# Altium integrated library TI_Logic_Flip-Flop,Latch,Register.IntLib: 2598 symbols (part 91 of 122)
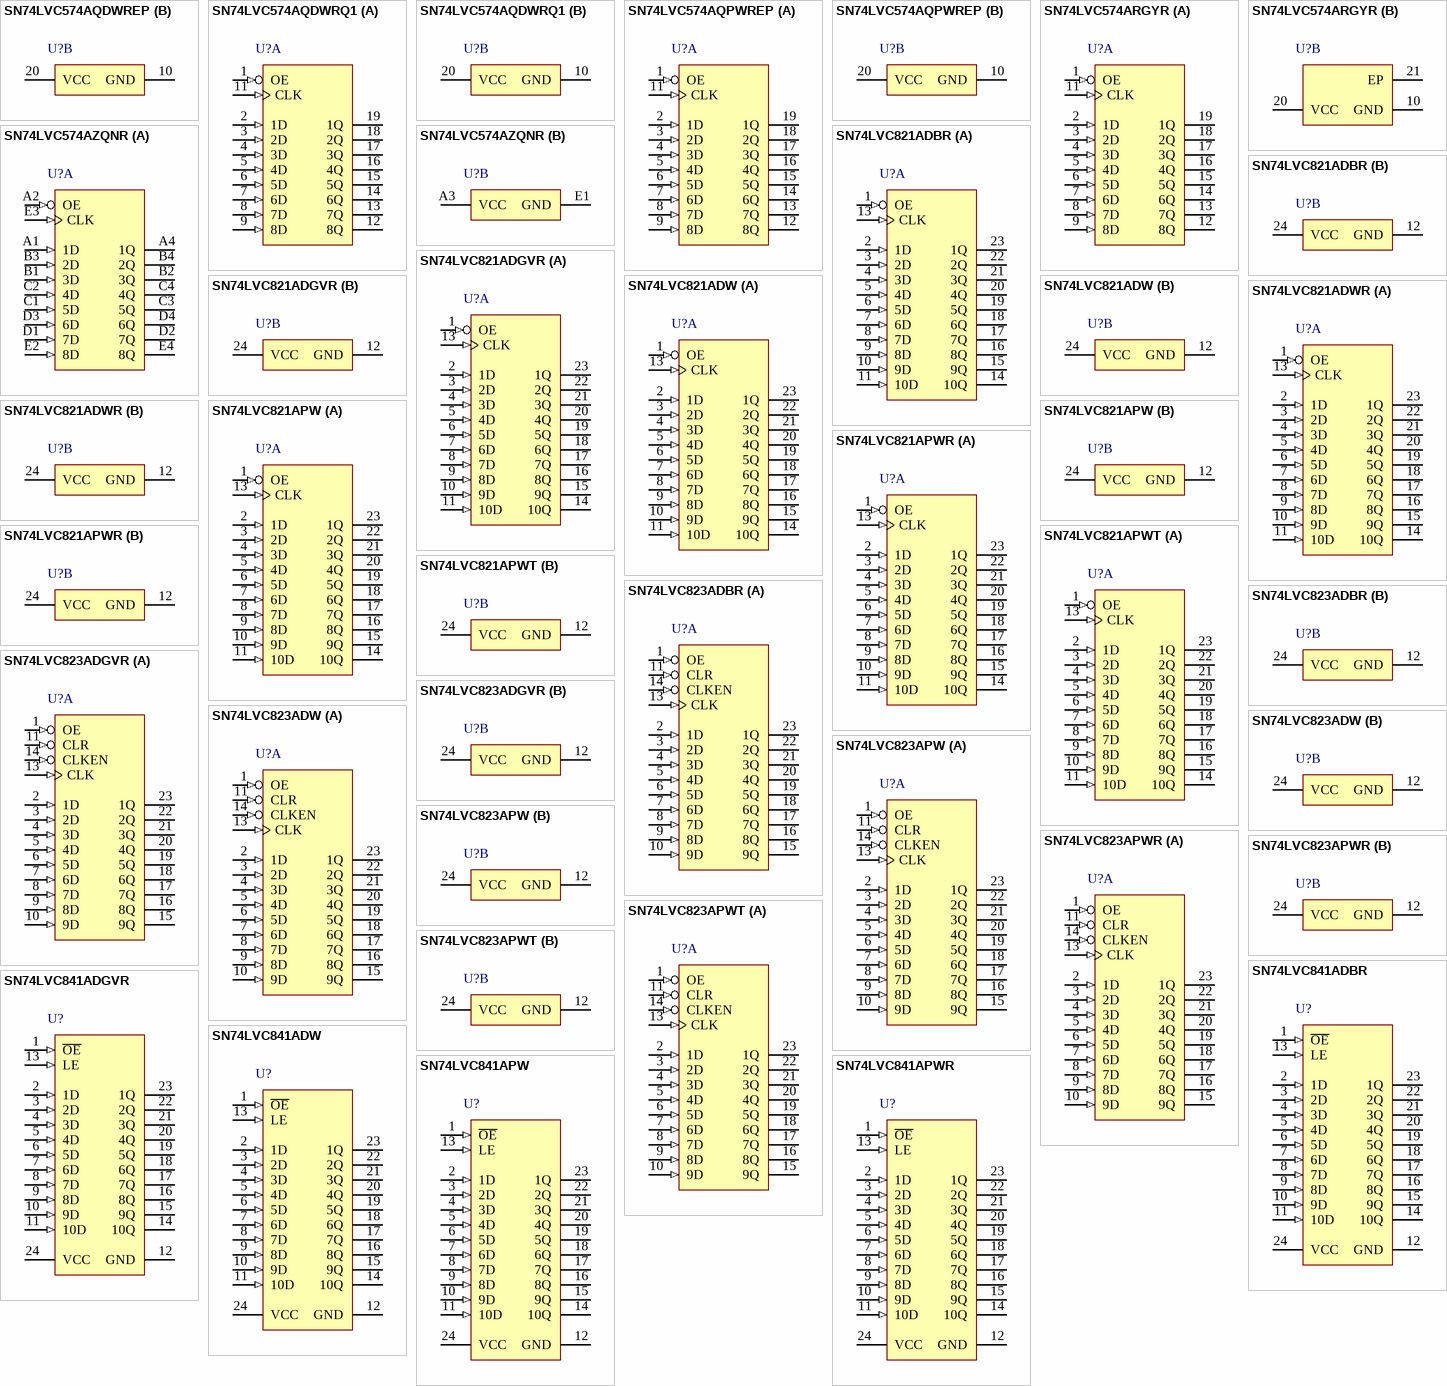
[diagram p229: symbols SN74LVC574AQDWREP to SN74LVC841APWR]

## SN74LVC841ADW
designator U?
10-Bit Bus-Interface D-Type Latch With 3-State Outputs, DW0024A, TUBE; Generic Part Number: SN74LVC841A; Manufacturer: Texas Instruments; PartNumber: SN74LVC841ADW; VCC(Min)(V): 1.65; VCC(Max)(V): 3.6; Output Type: CMOS; Logic: True; Static Current: 0.01; Input Type: CMOS,TTL; Bits(#): 10; F @ Nom Voltage(Max)(Mhz): 100; Rating: Catalog; Technology Family: LVC; Voltage(Nom)(V): 1.8,2.5,2.7,3.3; Schmitt Trigger: No; Output Drive (IOL/IOH)(Max)(mA): 24/-24; Output Logic: Non-inverted; 3-State Output: Yes; tpd @ Nom Voltage(Max)(ns): 7.5,6.7; DatasheetVersion: SCAS307J; PackageReference: DW0024A; Supplier 1: Digi-Key; Supplier Part Number 1: 296-8552-5-ND; Supplier 2: Farnell; Supplier Part Number 2: 1741602; Supplier 3: Mouser; Supplier Part Number 3: 595-SN74LVC841ADW; ICC @ Nom Voltage(Max)(mA): 0.01; Operating Temperature Range(C): -40 to 85; Code_JEDEC: MS-013; ComponentLink1Description: Manufacturer URL; ComponentLink1URL: http://www.ti.com/; ComponentLink2Description: Datasheet; ComponentLink2URL: http://www.ti.com/lit/ds/symlink/sn74lvc841a.pdf; ComponentLink3Description: Package Specification; ComponentLink3URL: http://www.ti.com/lit/ml/mpds174a/mpds174a.pdf
footprint DW0024A_N (SOIC, 24-Leads, Body 15.6x7.6mm, Pitch 1.27mm, IPC Medium Density)
footprint DW0024A_M (SOIC, 24-Leads, Body 15.6x7.6mm, Pitch 1.27mm, IPC Low Density)
footprint DW0024A_L (SOIC, 24-Leads, Body 15.6x7.6mm, Pitch 1.27mm, IPC High Density)
pins: 1 ~{OE} (in), 2 1D (in), 3 2D (in), 4 3D (in), 5 4D (in), 6 5D (in), 7 6D (in), 8 7D (in), 9 8D (in), 10 9D (in), 11 10D (in), 12 GND (power), 13 LE (in), 14 10Q (hiz), 15 9Q (hiz), 16 8Q (hiz), 17 7Q (hiz), 18 6Q (hiz), 19 5Q (hiz), 20 4Q (hiz), 21 3Q (hiz), 22 2Q (hiz), 23 1Q (hiz), 24 VCC (power)

## SN74LVC841APW
designator U?
10-Bit Bus-Interface D-Type Latch With 3-State Outputs, PW0024A, TUBE; Generic Part Number: SN74LVC841A; Manufacturer: Texas Instruments; PartNumber: SN74LVC841APW; VCC(Min)(V): 1.65; VCC(Max)(V): 3.6; Output Type: CMOS; Logic: True; Static Current: 0.01; Input Type: CMOS,TTL; Bits(#): 10; F @ Nom Voltage(Max)(Mhz): 100; Rating: Catalog; Technology Family: LVC; Voltage(Nom)(V): 1.8,2.5,2.7,3.3; Schmitt Trigger: No; Output Drive (IOL/IOH)(Max)(mA): 24/-24; Output Logic: Non-inverted; 3-State Output: Yes; tpd @ Nom Voltage(Max)(ns): 7.5,6.7; DatasheetVersion: SCAS307J; PackageReference: PW0024A; Supplier 1: Digi-Key; Supplier Part Number 1: 296-34077-5-ND; Supplier 2: Farnell; Supplier Part Number 2: 1236405; Supplier 3: Mouser; Supplier Part Number 3: 595-SN74LVC841APW; ICC @ Nom Voltage(Max)(mA): 0.01; Operating Temperature Range(C): -40 to 85; Code_JEDEC: MO-153; ComponentLink1Description: Manufacturer URL; ComponentLink1URL: http://www.ti.com/; ComponentLink2Description: Datasheet; ComponentLink2URL: http://www.ti.com/lit/ds/symlink/sn74lvc841a.pdf; ComponentLink3Description: Package Specification; ComponentLink3URL: http://www.ti.com/lit/ml/mpds363/mpds363.pdf
footprint PW0024A_N (SOP, 24-Leads, Body 7.9x4.5mm, Pitch 0.65mm, IPC Medium Density)
footprint PW0024A_M (SOP, 24-Leads, Body 7.9x4.5mm, Pitch 0.65mm, IPC Low Density)
footprint PW0024A_L (SOP, 24-Leads, Body 7.9x4.5mm, Pitch 0.65mm, IPC High Density)
pins: 1 ~{OE} (in), 2 1D (in), 3 2D (in), 4 3D (in), 5 4D (in), 6 5D (in), 7 6D (in), 8 7D (in), 9 8D (in), 10 9D (in), 11 10D (in), 12 GND (power), 13 LE (in), 14 10Q (hiz), 15 9Q (hiz), 16 8Q (hiz), 17 7Q (hiz), 18 6Q (hiz), 19 5Q (hiz), 20 4Q (hiz), 21 3Q (hiz), 22 2Q (hiz), 23 1Q (hiz), 24 VCC (power)

## SN74LVC841APWR
designator U?
10-Bit Bus-Interface D-Type Latch With 3-State Outputs, PW0024A, LARGE T&R; Generic Part Number: SN74LVC841A; Manufacturer: Texas Instruments; PartNumber: SN74LVC841APWR; VCC(Min)(V): 1.65; VCC(Max)(V): 3.6; Output Type: CMOS; Logic: True; Static Current: 0.01; Input Type: CMOS,TTL; Bits(#): 10; F @ Nom Voltage(Max)(Mhz): 100; Rating: Catalog; Technology Family: LVC; Voltage(Nom)(V): 1.8,2.5,2.7,3.3; Schmitt Trigger: No; Output Drive (IOL/IOH)(Max)(mA): 24/-24; Output Logic: Non-inverted; 3-State Output: Yes; tpd @ Nom Voltage(Max)(ns): 7.5,6.7; DatasheetVersion: SCAS307J; PackageReference: PW0024A; Supplier 1: Digi-Key; Supplier Part Number 1: 296-8553-2-ND; Supplier 2: Digi-Key; Supplier Part Number 2: 296-8553-1-ND; Supplier 3: Digi-Key; Supplier Part Number 3: 296-8553-6-ND; Supplier 4: Newark; Supplier Part Number 4: 76C4354; Supplier 5: Mouser; Supplier Part Number 5: 595-SN74LVC841APWR; ICC @ Nom Voltage(Max)(mA): 0.01; Operating Temperature Range(C): -40 to 85; Code_JEDEC: MO-153; ComponentLink1Description: Manufacturer URL; ComponentLink1URL: http://www.ti.com/; ComponentLink2Description: Datasheet; ComponentLink2URL: http://www.ti.com/lit/ds/symlink/sn74lvc841a.pdf; ComponentLink3Description: Package Specification; ComponentLink3URL: http://www.ti.com/lit/ml/mpds363/mpds363.pdf
footprint PW0024A_N (SOP, 24-Leads, Body 7.9x4.5mm, Pitch 0.65mm, IPC Medium Density)
footprint PW0024A_M (SOP, 24-Leads, Body 7.9x4.5mm, Pitch 0.65mm, IPC Low Density)
footprint PW0024A_L (SOP, 24-Leads, Body 7.9x4.5mm, Pitch 0.65mm, IPC High Density)
pins: 1 ~{OE} (in), 2 1D (in), 3 2D (in), 4 3D (in), 5 4D (in), 6 5D (in), 7 6D (in), 8 7D (in), 9 8D (in), 10 9D (in), 11 10D (in), 12 GND (power), 13 LE (in), 14 10Q (hiz), 15 9Q (hiz), 16 8Q (hiz), 17 7Q (hiz), 18 6Q (hiz), 19 5Q (hiz), 20 4Q (hiz), 21 3Q (hiz), 22 2Q (hiz), 23 1Q (hiz), 24 VCC (power)

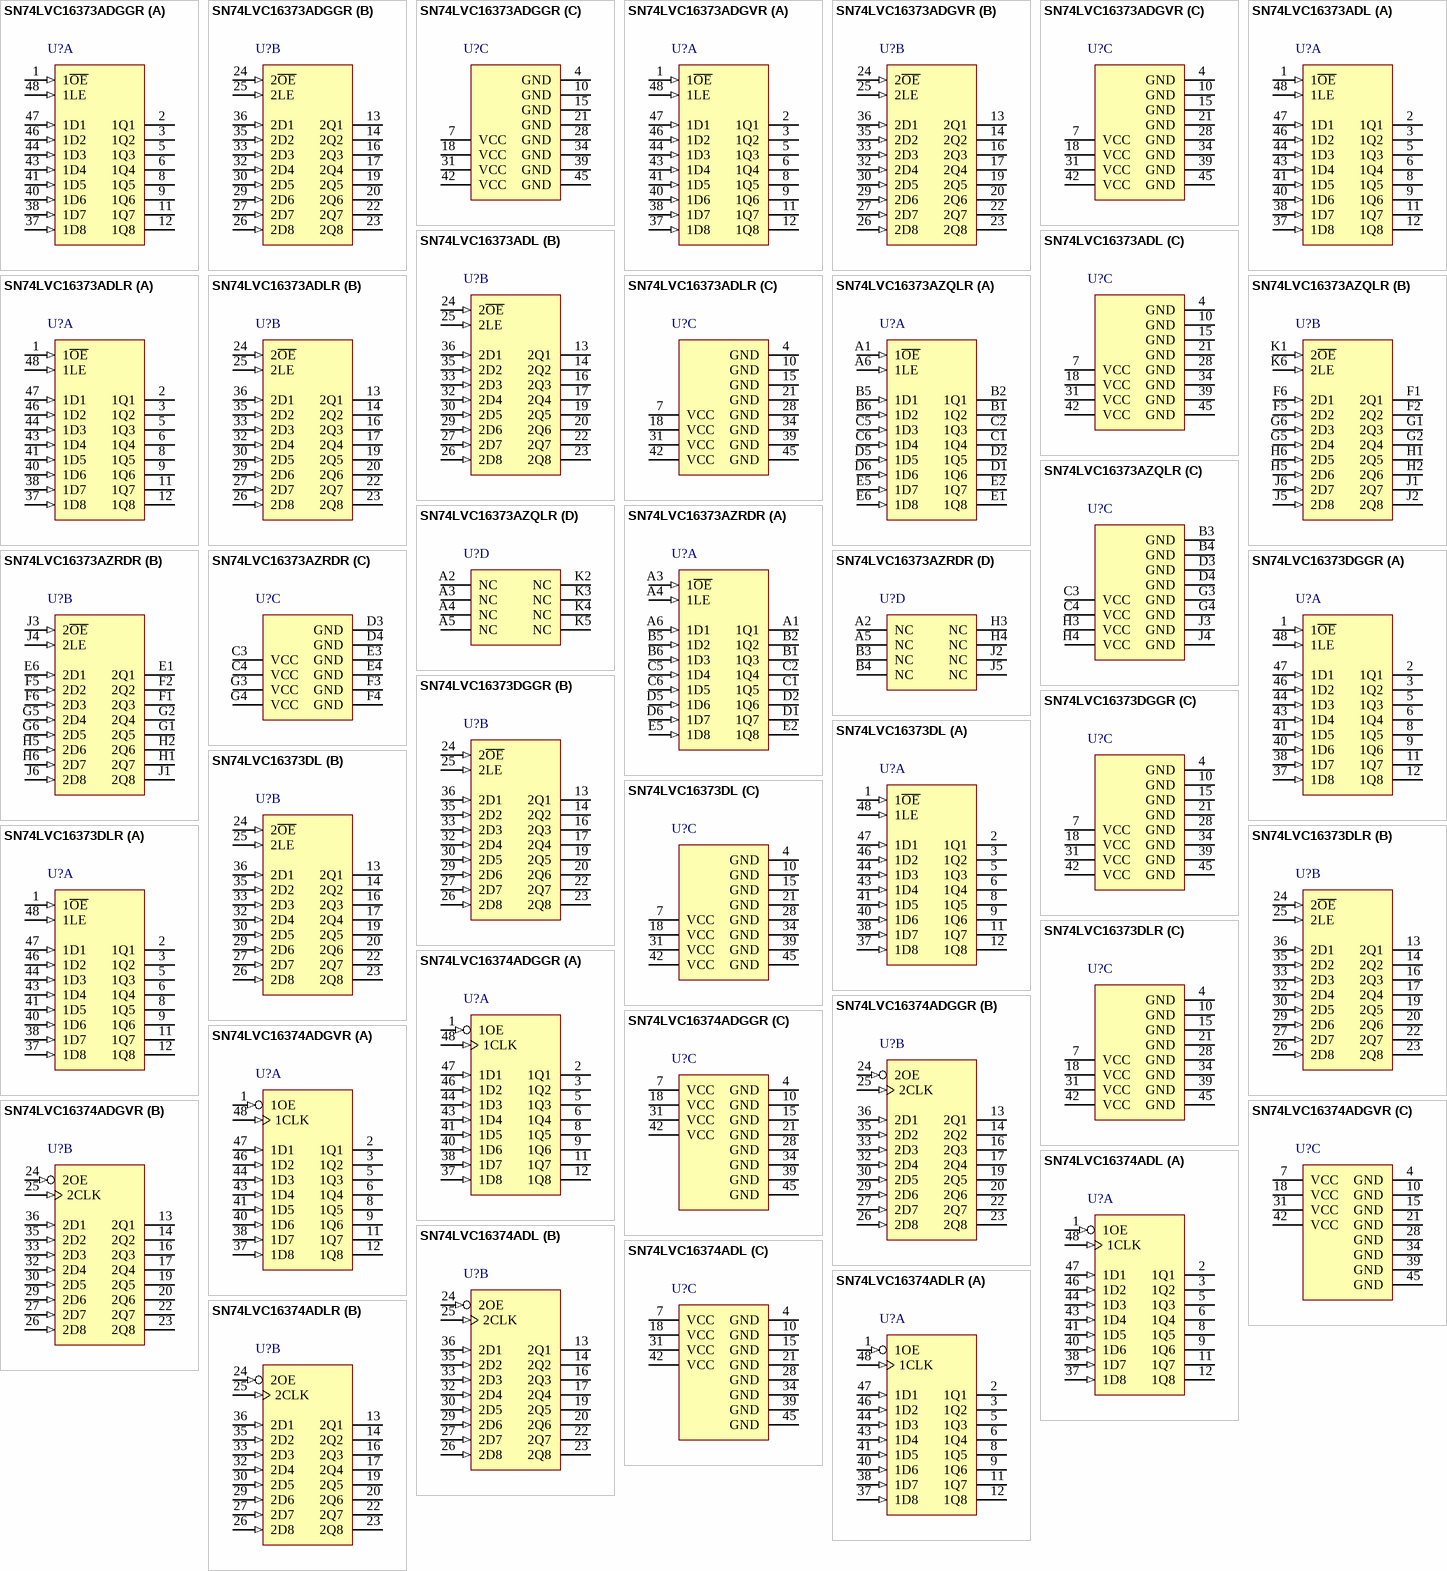
[diagram p107: symbols SN74LVC16373ADGGR to SN74LVC16374ADLR]

## SN74LVC16373ADGGR
designator U?
16-Bit Transparent D-Type Latch With 3-State Outputs, DGG0048A, LARGE T&R; Generic Part Number: SN74LVC16373A; Manufacturer: Texas Instruments; PartNumber: SN74LVC16373ADGGR; VCC(Min)(V): 1.65; VCC(Max)(V): 3.6; Output Type: CMOS; Logic: True; Static Current: 0.02; Input Type: CMOS,TTL; Bits(#): 16; F @ Nom Voltage(Max)(Mhz): 100; Rating: Catalog; Technology Family: LVC; Voltage(Nom)(V): 1.8,2.5,2.7,3.3; Schmitt Trigger: No; Output Drive (IOL/IOH)(Max)(mA): 24/-24; Output Logic: Non-inverted; 3-State Output: Yes; tpd @ Nom Voltage(Max)(ns): 6.4,4.2,4.9; DatasheetVersion: SCAS755B; PackageReference: DGG0048A; Supplier 1: Digi-Key; Supplier Part Number 1: 296-13241-2-ND; Supplier 2: Digi-Key; Supplier Part Number 2: 296-13241-1-ND; Supplier 3: Digi-Key; Supplier Part Number 3: 296-13241-6-ND; Supplier 4: Farnell; Supplier Part Number 4: 2334922; Supplier 5: Farnell; Supplier Part Number 5: 2437113; Supplier 6: Newark; Supplier Part Number 6: 94T5050; Supplier 7: Newark; Supplier Part Number 7: 76C4166; Supplier 8: Mouser; Supplier Part Number 8: 595-SNLVC16373ADGGR; ICC @ Nom Voltage(Max)(mA): 0.02; Operating Temperature Range(C): -40 to 125,-40 to 85; Code_JEDEC: MO-153; ComponentLink1Description: Manufacturer URL; ComponentLink1URL: http://www.ti.com/; ComponentLink2Description: Datasheet; ComponentLink2URL: http://www.ti.com/lit/ds/symlink/sn74lvc16373a.pdf; ComponentLink3Description: Package Specification; ComponentLink3URL: http://www.ti.com/lit/ml/mtss003d/mtss003d.pdf
footprint DGG0048A_N (TSSOP, 48-Leads, Body 12.6x6.2mm, Pitch 0.5mm, IPC Medium Density)
footprint DGG0048A_M (TSSOP, 48-Leads, Body 12.6x6.2mm, Pitch 0.5mm, IPC Low Density)
footprint DGG0048A_L (TSSOP, 48-Leads, Body 12.6x6.2mm, Pitch 0.5mm, IPC High Density)
part A pins: 1 1~{OE} (in) "Output Enable 1", 2 1Q1 (hiz) "1Q1 Output", 3 1Q2 (hiz) "1Q2 Output", 5 1Q3 (hiz) "1Q3 Output", 6 1Q4 (hiz) "1Q4 Output", 8 1Q5 (hiz) "1Q5 Output", 9 1Q6 (hiz) "1Q6 Output", 11 1Q7 (hiz) "1Q7 Output", 12 1Q8 (hiz) "1Q8 Output", 37 1D8 (in) "1D8 Input", 38 1D7 (in) "1D7 Input", 40 1D6 (in) "1D6 Input", 41 1D5 (in) "1D5 Input", 43 1D4 (in) "1D4 Input", 44 1D3 (in) "1D3 Input", 46 1D2 (in) "1D2 Input", 47 1D1 (in) "1D1 Input", 48 1LE (in) "Latch Enable 1"
part B pins: 13 2Q1 (hiz) "2Q1 Output", 14 2Q2 (hiz) "2Q2 Output", 16 2Q3 (hiz) "2Q3 Output", 17 2Q4 (hiz) "2Q4 Output", 19 2Q5 (hiz) "Output", 20 2Q6 (hiz) "2Q6 Output", 22 2Q7 (hiz) "2Q7 Output", 23 2Q8 (hiz) "2Q8 Output", 24 2~{OE} (in) "Output Enable 2", 25 2LE (in) "2LE Input", 26 2D8 (in) "2D8 Input", 27 2D7 (in) "2D7 Input", 29 2D6 (in) "2D6 Input", 30 2D5 (in) "2D5 Input", 32 2D4 (in) "2D4 Input", 33 2D3 (in) "2D3 Input", 35 2D2 (in) "2D2 Input", 36 2D1 (in) "2D1 Input"
part C pins: 4 GND (power) "Ground Pin", 7 VCC (power) "Power Pin", 10 GND (power) "Ground Pin", 15 GND (power) "Ground Pin", 18 VCC (power) "Power Pin", 21 GND (power) "Ground Pin", 28 GND (power) "Ground Pin", 31 VCC (power) "Power Pin", 34 GND (power) "Ground Pin", 39 GND (power) "Ground Pin", 42 VCC (power) "Power Pin", 45 GND (power) "Ground Pin"

## SN74LVC16373ADGVR
designator U?
16-Bit Transparent D-Type Latch With 3-State Outputs, DGV0048A, LARGE T&R; Generic Part Number: SN74LVC16373A; Manufacturer: Texas Instruments; PartNumber: SN74LVC16373ADGVR; VCC(Min)(V): 1.65; VCC(Max)(V): 3.6; Output Type: CMOS; Logic: True; Static Current: 0.02; Input Type: CMOS,TTL; Bits(#): 16; F @ Nom Voltage(Max)(Mhz): 100; Rating: Catalog; Technology Family: LVC; Voltage(Nom)(V): 1.8,2.5,2.7,3.3; Schmitt Trigger: No; Output Drive (IOL/IOH)(Max)(mA): 24/-24; Output Logic: Non-inverted; 3-State Output: Yes; tpd @ Nom Voltage(Max)(ns): 6.4,4.2,4.9; DatasheetVersion: SCAS755B; PackageReference: DGV0048A; Supplier 1: Digi-Key; Supplier Part Number 1: 296-13242-2-ND; Supplier 2: Digi-Key; Supplier Part Number 2: 296-13242-1-ND; Supplier 3: Digi-Key; Supplier Part Number 3: 296-13242-6-ND; Supplier 4: Newark; Supplier Part Number 4: 76C4167; Supplier 5: Mouser; Supplier Part Number 5: 595-SNLVC16373ADGVR; ICC @ Nom Voltage(Max)(mA): 0.02; Operating Temperature Range(C): -40 to 125,-40 to 85; Code_JEDEC: MO-153; ComponentLink1Description: Manufacturer URL; ComponentLink1URL: http://www.ti.com/; ComponentLink2Description: Datasheet; ComponentLink2URL: http://www.ti.com/lit/ds/symlink/sn74lvc16373a.pdf; ComponentLink3Description: Package Specification; ComponentLink3URL: http://www.ti.com/lit/ml/mpds006c/mpds006c.pdf
footprint DGV0048A_N (SOP, 48-Leads, Body 4.5x9.8mm, Pitch 0.4mm, IPC Medium Density)
footprint DGV0048A_M (SOP, 48-Leads, Body 4.5x9.8mm, Pitch 0.4mm, IPC Low Density)
footprint DGV0048A_L (SOP, 48-Leads, Body 4.5x9.8mm, Pitch 0.4mm, IPC High Density)
part A pins: 1 1~{OE} (in) "Output Enable 1", 2 1Q1 (hiz) "1Q1 Output", 3 1Q2 (hiz) "1Q2 Output", 5 1Q3 (hiz) "1Q3 Output", 6 1Q4 (hiz) "1Q4 Output", 8 1Q5 (hiz) "1Q5 Output", 9 1Q6 (hiz) "1Q6 Output", 11 1Q7 (hiz) "1Q7 Output", 12 1Q8 (hiz) "1Q8 Output", 37 1D8 (in) "1D8 Input", 38 1D7 (in) "1D7 Input", 40 1D6 (in) "1D6 Input", 41 1D5 (in) "1D5 Input", 43 1D4 (in) "1D4 Input", 44 1D3 (in) "1D3 Input", 46 1D2 (in) "1D2 Input", 47 1D1 (in) "1D1 Input", 48 1LE (in) "Latch Enable 1"
part B pins: 13 2Q1 (hiz) "2Q1 Output", 14 2Q2 (hiz) "2Q2 Output", 16 2Q3 (hiz) "2Q3 Output", 17 2Q4 (hiz) "2Q4 Output", 19 2Q5 (hiz) "Output", 20 2Q6 (hiz) "2Q6 Output", 22 2Q7 (hiz) "2Q7 Output", 23 2Q8 (hiz) "2Q8 Output", 24 2~{OE} (in) "Output Enable 2", 25 2LE (in) "2LE Input", 26 2D8 (in) "2D8 Input", 27 2D7 (in) "2D7 Input", 29 2D6 (in) "2D6 Input", 30 2D5 (in) "2D5 Input", 32 2D4 (in) "2D4 Input", 33 2D3 (in) "2D3 Input", 35 2D2 (in) "2D2 Input", 36 2D1 (in) "2D1 Input"
part C pins: 4 GND (power) "Ground Pin", 7 VCC (power) "Power Pin", 10 GND (power) "Ground Pin", 15 GND (power) "Ground Pin", 18 VCC (power) "Power Pin", 21 GND (power) "Ground Pin", 28 GND (power) "Ground Pin", 31 VCC (power) "Power Pin", 34 GND (power) "Ground Pin", 39 GND (power) "Ground Pin", 42 VCC (power) "Power Pin", 45 GND (power) "Ground Pin"

## SN74LVC16373ADL
designator U?
16-Bit Transparent D-Type Latch With 3-State Outputs, DL0048A, TUBE; Generic Part Number: SN74LVC16373A; Manufacturer: Texas Instruments; PartNumber: SN74LVC16373ADL; VCC(Min)(V): 1.65; VCC(Max)(V): 3.6; Output Type: CMOS; Logic: True; Static Current: 0.02; Input Type: CMOS,TTL; Bits(#): 16; F @ Nom Voltage(Max)(Mhz): 100; Rating: Catalog; Technology Family: LVC; Voltage(Nom)(V): 1.8,2.5,2.7,3.3; Schmitt Trigger: No; Output Drive (IOL/IOH)(Max)(mA): 24/-24; Output Logic: Non-inverted; 3-State Output: Yes; tpd @ Nom Voltage(Max)(ns): 6.4,4.2,4.9; DatasheetVersion: SCAS755B; PackageReference: DL0048A; Supplier 1: Digi-Key; Supplier Part Number 1: 296-34071-5-ND; Supplier 2: Farnell; Supplier Part Number 2: 1740083; Supplier 3: Newark; Supplier Part Number 3: 50R6623; Supplier 4: Mouser; Supplier Part Number 4: 595-SN74LVC16373ADL; ICC @ Nom Voltage(Max)(mA): 0.02; Operating Temperature Range(C): -40 to 125,-40 to 85; Code_JEDEC: MO-118; ComponentLink1Description: Manufacturer URL; ComponentLink1URL: http://www.ti.com/; ComponentLink2Description: Datasheet; ComponentLink2URL: http://www.ti.com/lit/ds/symlink/sn74lvc16373a.pdf; ComponentLink3Description: Package Specification; ComponentLink3URL: http://www.ti.com/lit/ml/mpds490/mpds490.pdf
footprint DL0048A_N (SOP, 48-Leads, Body 7.6x16mm, Pitch 0.635mm, IPC Medium Density)
footprint DL0048A_M (SOP, 48-Leads, Body 7.6x16mm, Pitch 0.635mm, IPC Low Density)
footprint DL0048A_L (SOP, 48-Leads, Body 7.6x16mm, Pitch 0.635mm, IPC High Density)
part A pins: 1 1~{OE} (in) "Output Enable 1", 2 1Q1 (hiz) "1Q1 Output", 3 1Q2 (hiz) "1Q2 Output", 5 1Q3 (hiz) "1Q3 Output", 6 1Q4 (hiz) "1Q4 Output", 8 1Q5 (hiz) "1Q5 Output", 9 1Q6 (hiz) "1Q6 Output", 11 1Q7 (hiz) "1Q7 Output", 12 1Q8 (hiz) "1Q8 Output", 37 1D8 (in) "1D8 Input", 38 1D7 (in) "1D7 Input", 40 1D6 (in) "1D6 Input", 41 1D5 (in) "1D5 Input", 43 1D4 (in) "1D4 Input", 44 1D3 (in) "1D3 Input", 46 1D2 (in) "1D2 Input", 47 1D1 (in) "1D1 Input", 48 1LE (in) "Latch Enable 1"
part B pins: 13 2Q1 (hiz) "2Q1 Output", 14 2Q2 (hiz) "2Q2 Output", 16 2Q3 (hiz) "2Q3 Output", 17 2Q4 (hiz) "2Q4 Output", 19 2Q5 (hiz) "Output", 20 2Q6 (hiz) "2Q6 Output", 22 2Q7 (hiz) "2Q7 Output", 23 2Q8 (hiz) "2Q8 Output", 24 2~{OE} (in) "Output Enable 2", 25 2LE (in) "2LE Input", 26 2D8 (in) "2D8 Input", 27 2D7 (in) "2D7 Input", 29 2D6 (in) "2D6 Input", 30 2D5 (in) "2D5 Input", 32 2D4 (in) "2D4 Input", 33 2D3 (in) "2D3 Input", 35 2D2 (in) "2D2 Input", 36 2D1 (in) "2D1 Input"
part C pins: 4 GND (power) "Ground Pin", 7 VCC (power) "Power Pin", 10 GND (power) "Ground Pin", 15 GND (power) "Ground Pin", 18 VCC (power) "Power Pin", 21 GND (power) "Ground Pin", 28 GND (power) "Ground Pin", 31 VCC (power) "Power Pin", 34 GND (power) "Ground Pin", 39 GND (power) "Ground Pin", 42 VCC (power) "Power Pin", 45 GND (power) "Ground Pin"

## SN74LVC16373ADLR
designator U?
16-Bit Transparent D-Type Latch With 3-State Outputs, DL0048A, LARGE T&R; Generic Part Number: SN74LVC16373A; Manufacturer: Texas Instruments; PartNumber: SN74LVC16373ADLR; VCC(Min)(V): 1.65; VCC(Max)(V): 3.6; Output Type: CMOS; Logic: True; Static Current: 0.02; Input Type: CMOS,TTL; Bits(#): 16; F @ Nom Voltage(Max)(Mhz): 100; Rating: Catalog; Technology Family: LVC; Voltage(Nom)(V): 1.8,2.5,2.7,3.3; Schmitt Trigger: No; Output Drive (IOL/IOH)(Max)(mA): 24/-24; Output Logic: Non-inverted; 3-State Output: Yes; tpd @ Nom Voltage(Max)(ns): 6.4,4.2,4.9; DatasheetVersion: SCAS755B; PackageReference: DL0048A; Supplier 1: Digi-Key; Supplier Part Number 1: 296-13243-2-ND; Supplier 2: Digi-Key; Supplier Part Number 2: 296-13243-1-ND; Supplier 3: Digi-Key; Supplier Part Number 3: 296-13243-6-ND; Supplier 4: Newark; Supplier Part Number 4: 76C4169; Supplier 5: Mouser; Supplier Part Number 5: 595-SN74LVC16373ADLR; ICC @ Nom Voltage(Max)(mA): 0.02; Operating Temperature Range(C): -40 to 125,-40 to 85; Code_JEDEC: MO-118; ComponentLink1Description: Manufacturer URL; ComponentLink1URL: http://www.ti.com/; ComponentLink2Description: Datasheet; ComponentLink2URL: http://www.ti.com/lit/ds/symlink/sn74lvc16373a.pdf; ComponentLink3Description: Package Specification; ComponentLink3URL: http://www.ti.com/lit/ml/mpds490/mpds490.pdf
footprint DL0048A_N (SOP, 48-Leads, Body 7.6x16mm, Pitch 0.635mm, IPC Medium Density)
footprint DL0048A_M (SOP, 48-Leads, Body 7.6x16mm, Pitch 0.635mm, IPC Low Density)
footprint DL0048A_L (SOP, 48-Leads, Body 7.6x16mm, Pitch 0.635mm, IPC High Density)
part A pins: 1 1~{OE} (in) "Output Enable 1", 2 1Q1 (hiz) "1Q1 Output", 3 1Q2 (hiz) "1Q2 Output", 5 1Q3 (hiz) "1Q3 Output", 6 1Q4 (hiz) "1Q4 Output", 8 1Q5 (hiz) "1Q5 Output", 9 1Q6 (hiz) "1Q6 Output", 11 1Q7 (hiz) "1Q7 Output", 12 1Q8 (hiz) "1Q8 Output", 37 1D8 (in) "1D8 Input", 38 1D7 (in) "1D7 Input", 40 1D6 (in) "1D6 Input", 41 1D5 (in) "1D5 Input", 43 1D4 (in) "1D4 Input", 44 1D3 (in) "1D3 Input", 46 1D2 (in) "1D2 Input", 47 1D1 (in) "1D1 Input", 48 1LE (in) "Latch Enable 1"
part B pins: 13 2Q1 (hiz) "2Q1 Output", 14 2Q2 (hiz) "2Q2 Output", 16 2Q3 (hiz) "2Q3 Output", 17 2Q4 (hiz) "2Q4 Output", 19 2Q5 (hiz) "Output", 20 2Q6 (hiz) "2Q6 Output", 22 2Q7 (hiz) "2Q7 Output", 23 2Q8 (hiz) "2Q8 Output", 24 2~{OE} (in) "Output Enable 2", 25 2LE (in) "2LE Input", 26 2D8 (in) "2D8 Input", 27 2D7 (in) "2D7 Input", 29 2D6 (in) "2D6 Input", 30 2D5 (in) "2D5 Input", 32 2D4 (in) "2D4 Input", 33 2D3 (in) "2D3 Input", 35 2D2 (in) "2D2 Input", 36 2D1 (in) "2D1 Input"
part C pins: 4 GND (power) "Ground Pin", 7 VCC (power) "Power Pin", 10 GND (power) "Ground Pin", 15 GND (power) "Ground Pin", 18 VCC (power) "Power Pin", 21 GND (power) "Ground Pin", 28 GND (power) "Ground Pin", 31 VCC (power) "Power Pin", 34 GND (power) "Ground Pin", 39 GND (power) "Ground Pin", 42 VCC (power) "Power Pin", 45 GND (power) "Ground Pin"

## SN74LVC16373AZQLR
designator U?
16-Bit Transparent D-Type Latch With 3-State Outputs, ZQL0056A, LARGE T&R; Generic Part Number: SN74LVC16373A; Manufacturer: Texas Instruments; PartNumber: SN74LVC16373AZQLR; VCC(Min)(V): 1.65; VCC(Max)(V): 3.6; Output Type: CMOS; Logic: True; Static Current: 0.02; Input Type: CMOS,TTL; Bits(#): 16; F @ Nom Voltage(Max)(Mhz): 100; Rating: Catalog; Technology Family: LVC; Voltage(Nom)(V): 1.8,2.5,2.7,3.3; Schmitt Trigger: No; Output Drive (IOL/IOH)(Max)(mA): 24/-24; Output Logic: Non-inverted; 3-State Output: Yes; tpd @ Nom Voltage(Max)(ns): 6.4,4.2,4.9; DatasheetVersion: SCAS755B; PackageReference: ZQL0056A; Supplier 1: Digi-Key; Supplier Part Number 1: 296-23272-2-ND; Supplier 2: Digi-Key; Supplier Part Number 2: 296-23272-1-ND; Supplier 3: Digi-Key; Supplier Part Number 3: 296-23272-6-ND; Supplier 4: Newark; Supplier Part Number 4: 87H2677; Supplier 5: Mouser; Supplier Part Number 5: 595-74LVC16373AZQLR; ICC @ Nom Voltage(Max)(mA): 0.02; Operating Temperature Range(C): -40 to 125,-40 to 85; Code_JEDEC: MO-285; ComponentLink1Description: Manufacturer URL; ComponentLink1URL: http://www.ti.com/; ComponentLink2Description: Datasheet; ComponentLink2URL: http://www.ti.com/lit/ds/symlink/sn74lvc16373a.pdf; ComponentLink3Description: Package Specification; ComponentLink3URL: http://www.ti.com/lit/ml/mpbg302g/mpbg302g.pdf
footprint ZQL0056A (BGA, 56-Balls, Body 7x4.5mm, Pitch 0.65mm)
part A pins: A1 1~{OE} (in) "Output Enable 1", A6 1LE (in) "Latch Enable 1", B1 1Q2 (hiz) "1Q2 Output", B2 1Q1 (hiz) "1Q1 Output", B5 1D1 (in) "1D1 Input", B6 1D2 (in) "1D2 Input", C1 1Q4 (hiz) "1Q4 Output", C2 1Q3 (hiz) "1Q3 Output", C5 1D3 (in) "1D3 Input", C6 1D4 (in) "1D4 Input", D1 1Q6 (hiz) "1Q6 Output", D2 1Q5 (hiz) "1Q5 Output", D5 1D5 (in) "1D5 Input", D6 1D6 (in) "1D6 Input", E1 1Q8 (hiz) "1Q7 Output", E2 1Q7 (hiz) "1Q8 Output", E5 1D7 (in) "1D7 Input", E6 1D8 (in) "1D8 Input"
part B pins: F1 2Q1 (hiz) "2Q1 Output", F2 2Q2 (hiz) "2Q2 Output", F5 2D2 (in) "2D2 Input", F6 2D1 (in) "2D1 Input", G1 2Q3 (hiz) "2Q3 Output", G2 2Q4 (hiz) "2Q4 Output", G5 2D4 (in) "2D4 Input", G6 2D3 (in) "2D3 Input", H1 2Q5 (hiz) "2Q5 Output", H2 2Q6 (hiz) "2Q6 Output", H5 2D6 (in) "2D6 Input", H6 2D5 (in) "2D5 Input", J1 2Q7 (hiz) "2Q7 Output", J2 2Q8 (hiz) "2Q8 Output", J5 2D8 (in) "2D8 Input", J6 2D7 (in) "2D7 Input", K1 2~{OE} (in) "Output Enable 2", K6 2LE (in) "2LE Input"
part C pins: B3 GND (power) "Ground Pin", B4 GND (power) "Ground Pin", C3 VCC (power) "Power Pin", C4 VCC (power) "Power Pin", D3 GND (power) "Ground Pin", D4 GND (power) "Ground Pin", G3 GND (power) "Ground Pin", G4 GND (power) "Ground Pin", H3 VCC (power) "Power Pin", H4 VCC (power) "Power Pin", J3 GND (power) "Ground Pin", J4 GND (power) "Ground Pin"
part D pins: A2 NC, A3 NC, A4 NC, A5 NC, K2 NC, K3 NC, K4 NC, K5 NC

## SN74LVC16373AZRDR
designator U?
16-Bit Transparent D-Type Latch With 3-State Outputs, ZRD0054A, LARGE T&R; Generic Part Number: SN74LVC16373A; Manufacturer: Texas Instruments; PartNumber: SN74LVC16373AZRDR; VCC(Min)(V): 1.65; VCC(Max)(V): 3.6; Output Type: CMOS; Logic: True; Static Current: 0.02; Input Type: CMOS,TTL; Bits(#): 16; F @ Nom Voltage(Max)(Mhz): 100; Rating: Catalog; Technology Family: LVC; Voltage(Nom)(V): 1.8,2.5,2.7,3.3; Schmitt Trigger: No; Output Drive (IOL/IOH)(Max)(mA): 24/-24; Output Logic: Non-inverted; 3-State Output: Yes; tpd @ Nom Voltage(Max)(ns): 6.4,4.2,4.9; DatasheetVersion: SCAS755B; PackageReference: ZRD0054A; Supplier 1: Digi-Key; Supplier Part Number 1: SN74LVC16373AZRDR-ND; Supplier 2: Newark; Supplier Part Number 2: 90H3704; Supplier 3: Mouser; Supplier Part Number 3: 595-N74LVC16373AZRDR; ICC @ Nom Voltage(Max)(mA): 0.02; Operating Temperature Range(C): -40 to 125,-40 to 85; Code_JEDEC: MO-205; ComponentLink1Description: Manufacturer URL; ComponentLink1URL: http://www.ti.com/; ComponentLink2Description: Datasheet; ComponentLink2URL: http://www.ti.com/lit/ds/symlink/sn74lvc16373a.pdf; ComponentLink3Description: Package Specification; ComponentLink3URL: http://www.ti.com/lit/ml/mpbg320a/mpbg320a.pdf
footprint ZRD0054A (BGA, 54-Balls, Body 8x5.5mm, Pitch 0.8mm)
part A pins: A1 1Q1 (hiz), A3 1~{OE} (in), A4 1LE (in), A6 1D1 (in), B1 1Q3 (hiz), B2 1Q2 (hiz), B5 1D2 (in), B6 1D3 (in), C1 1Q5 (hiz), C2 1Q4 (hiz), C5 1D4 (in), C6 1D5 (in), D1 1Q7 (hiz), D2 1Q6 (hiz), D5 1D6 (in), D6 1D7 (in), E2 1Q8 (hiz), E5 1D8 (in)
part B pins: E1 2Q1 (hiz), E6 2D1 (in), F1 2Q3 (hiz), F2 2Q2 (hiz), F5 2D2 (in), F6 2D3 (in), G1 2Q5 (hiz), G2 2Q4 (hiz), G5 2D4 (in), G6 2D5 (in), H1 2Q7 (hiz), H2 2Q6 (hiz), H5 2D6 (in), H6 2D7 (in), J1 2Q8 (hiz), J3 2~{OE} (in), J4 2LE (in), J6 2D8 (in)
part C pins: C3 VCC (power), C4 VCC (power), D3 GND (power), D4 GND (power), E3 GND (power), E4 GND (power), F3 GND (power), F4 GND (power), G3 VCC (power), G4 VCC (power)
part D pins: A2 NC, A5 NC, B3 NC, B4 NC, H3 NC, H4 NC, J2 NC, J5 NC

## SN74LVC16373DGGR
designator U?
16-Bit Transparent D-Type Latch With 3-State Outputs, DGG0048A, LARGE T&R; Generic Part Number: SN74LVC16373; Manufacturer: Texas Instruments; PartNumber: SN74LVC16373DGGR; VCC(Min)(V): 2.7; VCC(Max)(V): 3.6; Output Type: CMOS; ICC @ Nom Voltage(Max)(mA): 0.04; Input Type: CMOS,TTL; Bits(#): 16; F @ Nom Voltage(Max)(Mhz): 100; Rating: Catalog; Technology Family: LVC; Voltage(Nom)(V): 2.7,3.3; Schmitt Trigger: No; Output Drive (IOL/IOH)(Max)(mA): 24/-24; Output Logic: Non-inverted; 3-State Output: Yes; tpd @ Nom Voltage(Max)(ns): 7,8; DatasheetVersion: SCAS315B; PackageReference: DGG0048A; Supplier 1: Digi-Key; Supplier Part Number 1: 296-11848-2-ND; Supplier 2: Digi-Key; Supplier Part Number 2: 296-11848-1-ND; Supplier 3: Digi-Key; Supplier Part Number 3: 296-11848-6-ND; Supplier 4: Mouser; Supplier Part Number 4: 595-SN74LVC16373DGGR; Operating Temperature Range(C): -40 to 85; Code_JEDEC: MO-153; ComponentLink1Description: Manufacturer URL; ComponentLink1URL: http://www.ti.com/; ComponentLink2Description: Datasheet; ComponentLink2URL: http://www.ti.com/lit/ds/symlink/sn74lvc16373.pdf; ComponentLink3Description: Package Specification; ComponentLink3URL: http://www.ti.com/lit/ml/mtss003d/mtss003d.pdf
footprint DGG0048A_N (TSSOP, 48-Leads, Body 12.6x6.2mm, Pitch 0.5mm, IPC Medium Density)
footprint DGG0048A_M (TSSOP, 48-Leads, Body 12.6x6.2mm, Pitch 0.5mm, IPC Low Density)
footprint DGG0048A_L (TSSOP, 48-Leads, Body 12.6x6.2mm, Pitch 0.5mm, IPC High Density)
part A pins: 1 1~{OE} (in) "Output Enable 1", 2 1Q1 (hiz) "1Q1 Output", 3 1Q2 (hiz) "1Q2 Output", 5 1Q3 (hiz) "1Q3 Output", 6 1Q4 (hiz) "1Q4 Output", 8 1Q5 (hiz) "1Q5 Output", 9 1Q6 (hiz) "1Q6 Output", 11 1Q7 (hiz) "1Q7 Output", 12 1Q8 (hiz) "1Q8 Output", 37 1D8 (in) "1D8 Input", 38 1D7 (in) "1D7 Input", 40 1D6 (in) "1D6 Input", 41 1D5 (in) "1D5 Input", 43 1D4 (in) "1D4 Input", 44 1D3 (in) "1D3 Input", 46 1D2 (in) "1D2 Input", 47 1D1 (in) "1D1 Input", 48 1LE (in) "Latch Enable 1"
part B pins: 13 2Q1 (hiz) "2Q1 Output", 14 2Q2 (hiz) "2Q2 Output", 16 2Q3 (hiz) "2Q3 Output", 17 2Q4 (hiz) "2Q4 Output", 19 2Q5 (hiz) "Output", 20 2Q6 (hiz) "2Q6 Output", 22 2Q7 (hiz) "2Q7 Output", 23 2Q8 (hiz) "2Q8 Output", 24 2~{OE} (in) "Output Enable 2", 25 2LE (in) "2LE Input", 26 2D8 (in) "2D8 Input", 27 2D7 (in) "2D7 Input", 29 2D6 (in) "2D6 Input", 30 2D5 (in) "2D5 Input", 32 2D4 (in) "2D4 Input", 33 2D3 (in) "2D3 Input", 35 2D2 (in) "2D2 Input", 36 2D1 (in) "2D1 Input"
part C pins: 4 GND (power) "Ground Pin", 7 VCC (power) "Power Pin", 10 GND (power) "Ground Pin", 15 GND (power) "Ground Pin", 18 VCC (power) "Power Pin", 21 GND (power) "Ground Pin", 28 GND (power) "Ground Pin", 31 VCC (power) "Power Pin", 34 GND (power) "Ground Pin", 39 GND (power) "Ground Pin", 42 VCC (power) "Power Pin", 45 GND (power) "Ground Pin"

## SN74LVC16373DL
designator U?
16-Bit Transparent D-Type Latch With 3-State Outputs, DL0048A, TUBE; Generic Part Number: SN74LVC16373; Manufacturer: Texas Instruments; PartNumber: SN74LVC16373DL; VCC(Min)(V): 2.7; VCC(Max)(V): 3.6; Output Type: CMOS; ICC @ Nom Voltage(Max)(mA): 0.04; Input Type: CMOS,TTL; Bits(#): 16; F @ Nom Voltage(Max)(Mhz): 100; Rating: Catalog; Technology Family: LVC; Voltage(Nom)(V): 2.7,3.3; Schmitt Trigger: No; Output Drive (IOL/IOH)(Max)(mA): 24/-24; Output Logic: Non-inverted; 3-State Output: Yes; tpd @ Nom Voltage(Max)(ns): 7,8; DatasheetVersion: SCAS315B; PackageReference: DL0048A; Supplier 1: Digi-Key; Supplier Part Number 1: 296-11834-5-ND; Supplier 2: Farnell; Supplier Part Number 2: 1741053; Supplier 3: Mouser; Supplier Part Number 3: 595-SN74LVC16373DL; Operating Temperature Range(C): -40 to 85; Code_JEDEC: MO-118; ComponentLink1Description: Manufacturer URL; ComponentLink1URL: http://www.ti.com/; ComponentLink2Description: Datasheet; ComponentLink2URL: http://www.ti.com/lit/ds/symlink/sn74lvc16373.pdf; ComponentLink3Description: Package Specification; ComponentLink3URL: http://www.ti.com/lit/ml/mpds490/mpds490.pdf
footprint DL0048A_N (SOP, 48-Leads, Body 7.6x16mm, Pitch 0.635mm, IPC Medium Density)
footprint DL0048A_M (SOP, 48-Leads, Body 7.6x16mm, Pitch 0.635mm, IPC Low Density)
footprint DL0048A_L (SOP, 48-Leads, Body 7.6x16mm, Pitch 0.635mm, IPC High Density)
part A pins: 1 1~{OE} (in) "Output Enable 1", 2 1Q1 (hiz) "1Q1 Output", 3 1Q2 (hiz) "1Q2 Output", 5 1Q3 (hiz) "1Q3 Output", 6 1Q4 (hiz) "1Q4 Output", 8 1Q5 (hiz) "1Q5 Output", 9 1Q6 (hiz) "1Q6 Output", 11 1Q7 (hiz) "1Q7 Output", 12 1Q8 (hiz) "1Q8 Output", 37 1D8 (in) "1D8 Input", 38 1D7 (in) "1D7 Input", 40 1D6 (in) "1D6 Input", 41 1D5 (in) "1D5 Input", 43 1D4 (in) "1D4 Input", 44 1D3 (in) "1D3 Input", 46 1D2 (in) "1D2 Input", 47 1D1 (in) "1D1 Input", 48 1LE (in) "Latch Enable 1"
part B pins: 13 2Q1 (hiz) "2Q1 Output", 14 2Q2 (hiz) "2Q2 Output", 16 2Q3 (hiz) "2Q3 Output", 17 2Q4 (hiz) "2Q4 Output", 19 2Q5 (hiz) "Output", 20 2Q6 (hiz) "2Q6 Output", 22 2Q7 (hiz) "2Q7 Output", 23 2Q8 (hiz) "2Q8 Output", 24 2~{OE} (in) "Output Enable 2", 25 2LE (in) "2LE Input", 26 2D8 (in) "2D8 Input", 27 2D7 (in) "2D7 Input", 29 2D6 (in) "2D6 Input", 30 2D5 (in) "2D5 Input", 32 2D4 (in) "2D4 Input", 33 2D3 (in) "2D3 Input", 35 2D2 (in) "2D2 Input", 36 2D1 (in) "2D1 Input"
part C pins: 4 GND (power) "Ground Pin", 7 VCC (power) "Power Pin", 10 GND (power) "Ground Pin", 15 GND (power) "Ground Pin", 18 VCC (power) "Power Pin", 21 GND (power) "Ground Pin", 28 GND (power) "Ground Pin", 31 VCC (power) "Power Pin", 34 GND (power) "Ground Pin", 39 GND (power) "Ground Pin", 42 VCC (power) "Power Pin", 45 GND (power) "Ground Pin"

## SN74LVC16373DLR
designator U?
16-Bit Transparent D-Type Latch With 3-State Outputs, DL0048A, LARGE T&R; Generic Part Number: SN74LVC16373; Manufacturer: Texas Instruments; PartNumber: SN74LVC16373DLR; VCC(Min)(V): 2.7; VCC(Max)(V): 3.6; Output Type: CMOS; ICC @ Nom Voltage(Max)(mA): 0.04; Input Type: CMOS,TTL; Bits(#): 16; F @ Nom Voltage(Max)(Mhz): 100; Rating: Catalog; Technology Family: LVC; Voltage(Nom)(V): 2.7,3.3; Schmitt Trigger: No; Output Drive (IOL/IOH)(Max)(mA): 24/-24; Output Logic: Non-inverted; 3-State Output: Yes; tpd @ Nom Voltage(Max)(ns): 7,8; DatasheetVersion: SCAS315B; PackageReference: DL0048A; Supplier 1: Digi-Key; Supplier Part Number 1: 296-11834-2-ND; Supplier 2: Digi-Key; Supplier Part Number 2: 296-11834-1-ND; Supplier 3: Digi-Key; Supplier Part Number 3: 296-11834-6-ND; Supplier 4: Mouser; Supplier Part Number 4: 595-SN74LVC16373DLR; Operating Temperature Range(C): -40 to 85; Code_JEDEC: MO-118; ComponentLink1Description: Manufacturer URL; ComponentLink1URL: http://www.ti.com/; ComponentLink2Description: Datasheet; ComponentLink2URL: http://www.ti.com/lit/ds/symlink/sn74lvc16373.pdf; ComponentLink3Description: Package Specification; ComponentLink3URL: http://www.ti.com/lit/ml/mpds490/mpds490.pdf
footprint DL0048A_N (SOP, 48-Leads, Body 7.6x16mm, Pitch 0.635mm, IPC Medium Density)
footprint DL0048A_M (SOP, 48-Leads, Body 7.6x16mm, Pitch 0.635mm, IPC Low Density)
footprint DL0048A_L (SOP, 48-Leads, Body 7.6x16mm, Pitch 0.635mm, IPC High Density)
part A pins: 1 1~{OE} (in) "Output Enable 1", 2 1Q1 (hiz) "1Q1 Output", 3 1Q2 (hiz) "1Q2 Output", 5 1Q3 (hiz) "1Q3 Output", 6 1Q4 (hiz) "1Q4 Output", 8 1Q5 (hiz) "1Q5 Output", 9 1Q6 (hiz) "1Q6 Output", 11 1Q7 (hiz) "1Q7 Output", 12 1Q8 (hiz) "1Q8 Output", 37 1D8 (in) "1D8 Input", 38 1D7 (in) "1D7 Input", 40 1D6 (in) "1D6 Input", 41 1D5 (in) "1D5 Input", 43 1D4 (in) "1D4 Input", 44 1D3 (in) "1D3 Input", 46 1D2 (in) "1D2 Input", 47 1D1 (in) "1D1 Input", 48 1LE (in) "Latch Enable 1"
part B pins: 13 2Q1 (hiz) "2Q1 Output", 14 2Q2 (hiz) "2Q2 Output", 16 2Q3 (hiz) "2Q3 Output", 17 2Q4 (hiz) "2Q4 Output", 19 2Q5 (hiz) "Output", 20 2Q6 (hiz) "2Q6 Output", 22 2Q7 (hiz) "2Q7 Output", 23 2Q8 (hiz) "2Q8 Output", 24 2~{OE} (in) "Output Enable 2", 25 2LE (in) "2LE Input", 26 2D8 (in) "2D8 Input", 27 2D7 (in) "2D7 Input", 29 2D6 (in) "2D6 Input", 30 2D5 (in) "2D5 Input", 32 2D4 (in) "2D4 Input", 33 2D3 (in) "2D3 Input", 35 2D2 (in) "2D2 Input", 36 2D1 (in) "2D1 Input"
part C pins: 4 GND (power) "Ground Pin", 7 VCC (power) "Power Pin", 10 GND (power) "Ground Pin", 15 GND (power) "Ground Pin", 18 VCC (power) "Power Pin", 21 GND (power) "Ground Pin", 28 GND (power) "Ground Pin", 31 VCC (power) "Power Pin", 34 GND (power) "Ground Pin", 39 GND (power) "Ground Pin", 42 VCC (power) "Power Pin", 45 GND (power) "Ground Pin"

## SN74LVC16374ADGGR
designator U?
16-Bit Edge-Triggered D-Type Flip-Flop With 3-State Outputs, DGG0048A, LARGE T&R; Generic Part Number: SN74LVC16374A; Manufacturer: Texas Instruments; PartNumber: SN74LVC16374ADGGR; VCC(Min)(V): 1.65; VCC(Max)(V): 3.6; Output Type: CMOS; ICC @ Nom Voltage(Max)(mA): 0.02; Input Type: TTL,CMOS; Bits(#): 16; F @ Nom Voltage(Max)(Mhz): 100; Rating: Catalog; Technology Family: LVC; Voltage(Nom)(V): 1.8,2.5,2.7,3.3; Schmitt Trigger: No; Output Drive (IOL/IOH)(Max)(mA): 24/-24; Output Logic: Non-inverted; 3-State Output: Yes; tpd @ Nom Voltage(Max)(ns): 6.5,4.3,4.9,4.5; DatasheetVersion: SCAS728B; PackageReference: DGG0048A; Supplier 1: Digi-Key; Supplier Part Number 1: 296-13245-2-ND; Supplier 2: Digi-Key; Supplier Part Number 2: 296-13245-1-ND; Supplier 3: Digi-Key; Supplier Part Number 3: 296-13245-6-ND; Supplier 4: Farnell; Supplier Part Number 4: 2334898; Supplier 5: Newark; Supplier Part Number 5: 06X0817; Supplier 6: Mouser; Supplier Part Number 6: 595-SNLVC16374ADGGR; Operating Temperature Range(C): -40 to 125,-40 to 85; Code_JEDEC: MO-153; ComponentLink1Description: Manufacturer URL; ComponentLink1URL: http://www.ti.com/; ComponentLink2Description: Datasheet; ComponentLink2URL: http://www.ti.com/lit/ds/symlink/sn74lvc16374a.pdf; ComponentLink3Description: Package Specification; ComponentLink3URL: http://www.ti.com/lit/ml/mtss003d/mtss003d.pdf
footprint DGG0048A_N (TSSOP, 48-Leads, Body 12.6x6.2mm, Pitch 0.5mm, IPC Medium Density)
footprint DGG0048A_M (TSSOP, 48-Leads, Body 12.6x6.2mm, Pitch 0.5mm, IPC Low Density)
footprint DGG0048A_L (TSSOP, 48-Leads, Body 12.6x6.2mm, Pitch 0.5mm, IPC High Density)
part A pins: 1 1OE (in), 2 1Q1 (hiz), 3 1Q2 (hiz), 5 1Q3 (hiz), 6 1Q4 (hiz), 8 1Q5 (hiz), 9 1Q6 (hiz), 11 1Q7 (hiz), 12 1Q8 (hiz), 37 1D8 (in), 38 1D7 (in), 40 1D6 (in), 41 1D5 (in), 43 1D4 (in), 44 1D3 (in), 46 1D2 (in), 47 1D1 (in), 48 1CLK (in)
part B pins: 13 2Q1 (hiz), 14 2Q2 (hiz), 16 2Q3 (hiz), 17 2Q4 (hiz), 19 2Q5 (hiz), 20 2Q6 (hiz), 22 2Q7 (hiz), 23 2Q8 (hiz), 24 2OE (in), 25 2CLK (in), 26 2D8 (in), 27 2D7 (in), 29 2D6 (in), 30 2D5 (in), 32 2D4 (in), 33 2D3 (in), 35 2D2 (in), 36 2D1 (in)
part C pins: 4 GND (power), 7 VCC (power), 10 GND (power), 15 GND (power), 18 VCC (power), 21 GND (power), 28 GND (power), 31 VCC (power), 34 GND (power), 39 GND (power), 42 VCC (power), 45 GND (power)

## SN74LVC16374ADGVR
designator U?
16-Bit Edge-Triggered D-Type Flip-Flop With 3-State Outputs, DGV0048A, LARGE T&R; Generic Part Number: SN74LVC16374A; Manufacturer: Texas Instruments; PartNumber: SN74LVC16374ADGVR; VCC(Min)(V): 1.65; VCC(Max)(V): 3.6; Output Type: CMOS; ICC @ Nom Voltage(Max)(mA): 0.02; Input Type: TTL,CMOS; Bits(#): 16; F @ Nom Voltage(Max)(Mhz): 100; Rating: Catalog; Technology Family: LVC; Voltage(Nom)(V): 1.8,2.5,2.7,3.3; Schmitt Trigger: No; Output Drive (IOL/IOH)(Max)(mA): 24/-24; Output Logic: Non-inverted; 3-State Output: Yes; tpd @ Nom Voltage(Max)(ns): 6.5,4.3,4.9,4.5; DatasheetVersion: SCAS728B; PackageReference: DGV0048A; Supplier 1: Digi-Key; Supplier Part Number 1: 296-13246-2-ND; Supplier 2: Digi-Key; Supplier Part Number 2: 296-13246-1-ND; Supplier 3: Digi-Key; Supplier Part Number 3: 296-13246-6-ND; Supplier 4: Farnell; Supplier Part Number 4: 1236319; Supplier 5: Farnell; Supplier Part Number 5: 1236319RL; Supplier 6: Mouser; Supplier Part Number 6: 595-SNLVC16374ADGVR; Operating Temperature Range(C): -40 to 125,-40 to 85; Code_JEDEC: MO-153; ComponentLink1Description: Manufacturer URL; ComponentLink1URL: http://www.ti.com/; ComponentLink2Description: Datasheet; ComponentLink2URL: http://www.ti.com/lit/ds/symlink/sn74lvc16374a.pdf; ComponentLink3Description: Package Specification; ComponentLink3URL: http://www.ti.com/lit/ml/mpds006c/mpds006c.pdf
footprint DGV0048A_N (SOP, 48-Leads, Body 4.5x9.8mm, Pitch 0.4mm, IPC Medium Density)
footprint DGV0048A_M (SOP, 48-Leads, Body 4.5x9.8mm, Pitch 0.4mm, IPC Low Density)
footprint DGV0048A_L (SOP, 48-Leads, Body 4.5x9.8mm, Pitch 0.4mm, IPC High Density)
part A pins: 1 1OE (in), 2 1Q1 (hiz), 3 1Q2 (hiz), 5 1Q3 (hiz), 6 1Q4 (hiz), 8 1Q5 (hiz), 9 1Q6 (hiz), 11 1Q7 (hiz), 12 1Q8 (hiz), 37 1D8 (in), 38 1D7 (in), 40 1D6 (in), 41 1D5 (in), 43 1D4 (in), 44 1D3 (in), 46 1D2 (in), 47 1D1 (in), 48 1CLK (in)
part B pins: 13 2Q1 (hiz), 14 2Q2 (hiz), 16 2Q3 (hiz), 17 2Q4 (hiz), 19 2Q5 (hiz), 20 2Q6 (hiz), 22 2Q7 (hiz), 23 2Q8 (hiz), 24 2OE (in), 25 2CLK (in), 26 2D8 (in), 27 2D7 (in), 29 2D6 (in), 30 2D5 (in), 32 2D4 (in), 33 2D3 (in), 35 2D2 (in), 36 2D1 (in)
part C pins: 4 GND (power), 7 VCC (power), 10 GND (power), 15 GND (power), 18 VCC (power), 21 GND (power), 28 GND (power), 31 VCC (power), 34 GND (power), 39 GND (power), 42 VCC (power), 45 GND (power)

## SN74LVC16374ADL
designator U?
16-Bit Edge-Triggered D-Type Flip-Flop With 3-State Outputs, DL0048A, TUBE; Generic Part Number: SN74LVC16374A; Manufacturer: Texas Instruments; PartNumber: SN74LVC16374ADL; VCC(Min)(V): 1.65; VCC(Max)(V): 3.6; Output Type: CMOS; ICC @ Nom Voltage(Max)(mA): 0.02; Input Type: TTL,CMOS; Bits(#): 16; F @ Nom Voltage(Max)(Mhz): 100; Rating: Catalog; Technology Family: LVC; Voltage(Nom)(V): 1.8,2.5,2.7,3.3; Schmitt Trigger: No; Output Drive (IOL/IOH)(Max)(mA): 24/-24; Output Logic: Non-inverted; 3-State Output: Yes; tpd @ Nom Voltage(Max)(ns): 6.5,4.3,4.9,4.5; DatasheetVersion: SCAS728B; PackageReference: DL0048A; Supplier 1: Digi-Key; Supplier Part Number 1: 296-34072-5-ND; Supplier 2: Farnell; Supplier Part Number 2: 1752969; Supplier 3: Mouser; Supplier Part Number 3: 595-SN74LVC16374ADL; Operating Temperature Range(C): -40 to 125,-40 to 85; Code_JEDEC: MO-118; ComponentLink1Description: Manufacturer URL; ComponentLink1URL: http://www.ti.com/; ComponentLink2Description: Datasheet; ComponentLink2URL: http://www.ti.com/lit/ds/symlink/sn74lvc16374a.pdf; ComponentLink3Description: Package Specification; ComponentLink3URL: http://www.ti.com/lit/ml/mpds490/mpds490.pdf
footprint DL0048A_N (SOP, 48-Leads, Body 7.6x16mm, Pitch 0.635mm, IPC Medium Density)
footprint DL0048A_M (SOP, 48-Leads, Body 7.6x16mm, Pitch 0.635mm, IPC Low Density)
footprint DL0048A_L (SOP, 48-Leads, Body 7.6x16mm, Pitch 0.635mm, IPC High Density)
part A pins: 1 1OE (in), 2 1Q1 (hiz), 3 1Q2 (hiz), 5 1Q3 (hiz), 6 1Q4 (hiz), 8 1Q5 (hiz), 9 1Q6 (hiz), 11 1Q7 (hiz), 12 1Q8 (hiz), 37 1D8 (in), 38 1D7 (in), 40 1D6 (in), 41 1D5 (in), 43 1D4 (in), 44 1D3 (in), 46 1D2 (in), 47 1D1 (in), 48 1CLK (in)
part B pins: 13 2Q1 (hiz), 14 2Q2 (hiz), 16 2Q3 (hiz), 17 2Q4 (hiz), 19 2Q5 (hiz), 20 2Q6 (hiz), 22 2Q7 (hiz), 23 2Q8 (hiz), 24 2OE (in), 25 2CLK (in), 26 2D8 (in), 27 2D7 (in), 29 2D6 (in), 30 2D5 (in), 32 2D4 (in), 33 2D3 (in), 35 2D2 (in), 36 2D1 (in)
part C pins: 4 GND (power), 7 VCC (power), 10 GND (power), 15 GND (power), 18 VCC (power), 21 GND (power), 28 GND (power), 31 VCC (power), 34 GND (power), 39 GND (power), 42 VCC (power), 45 GND (power)

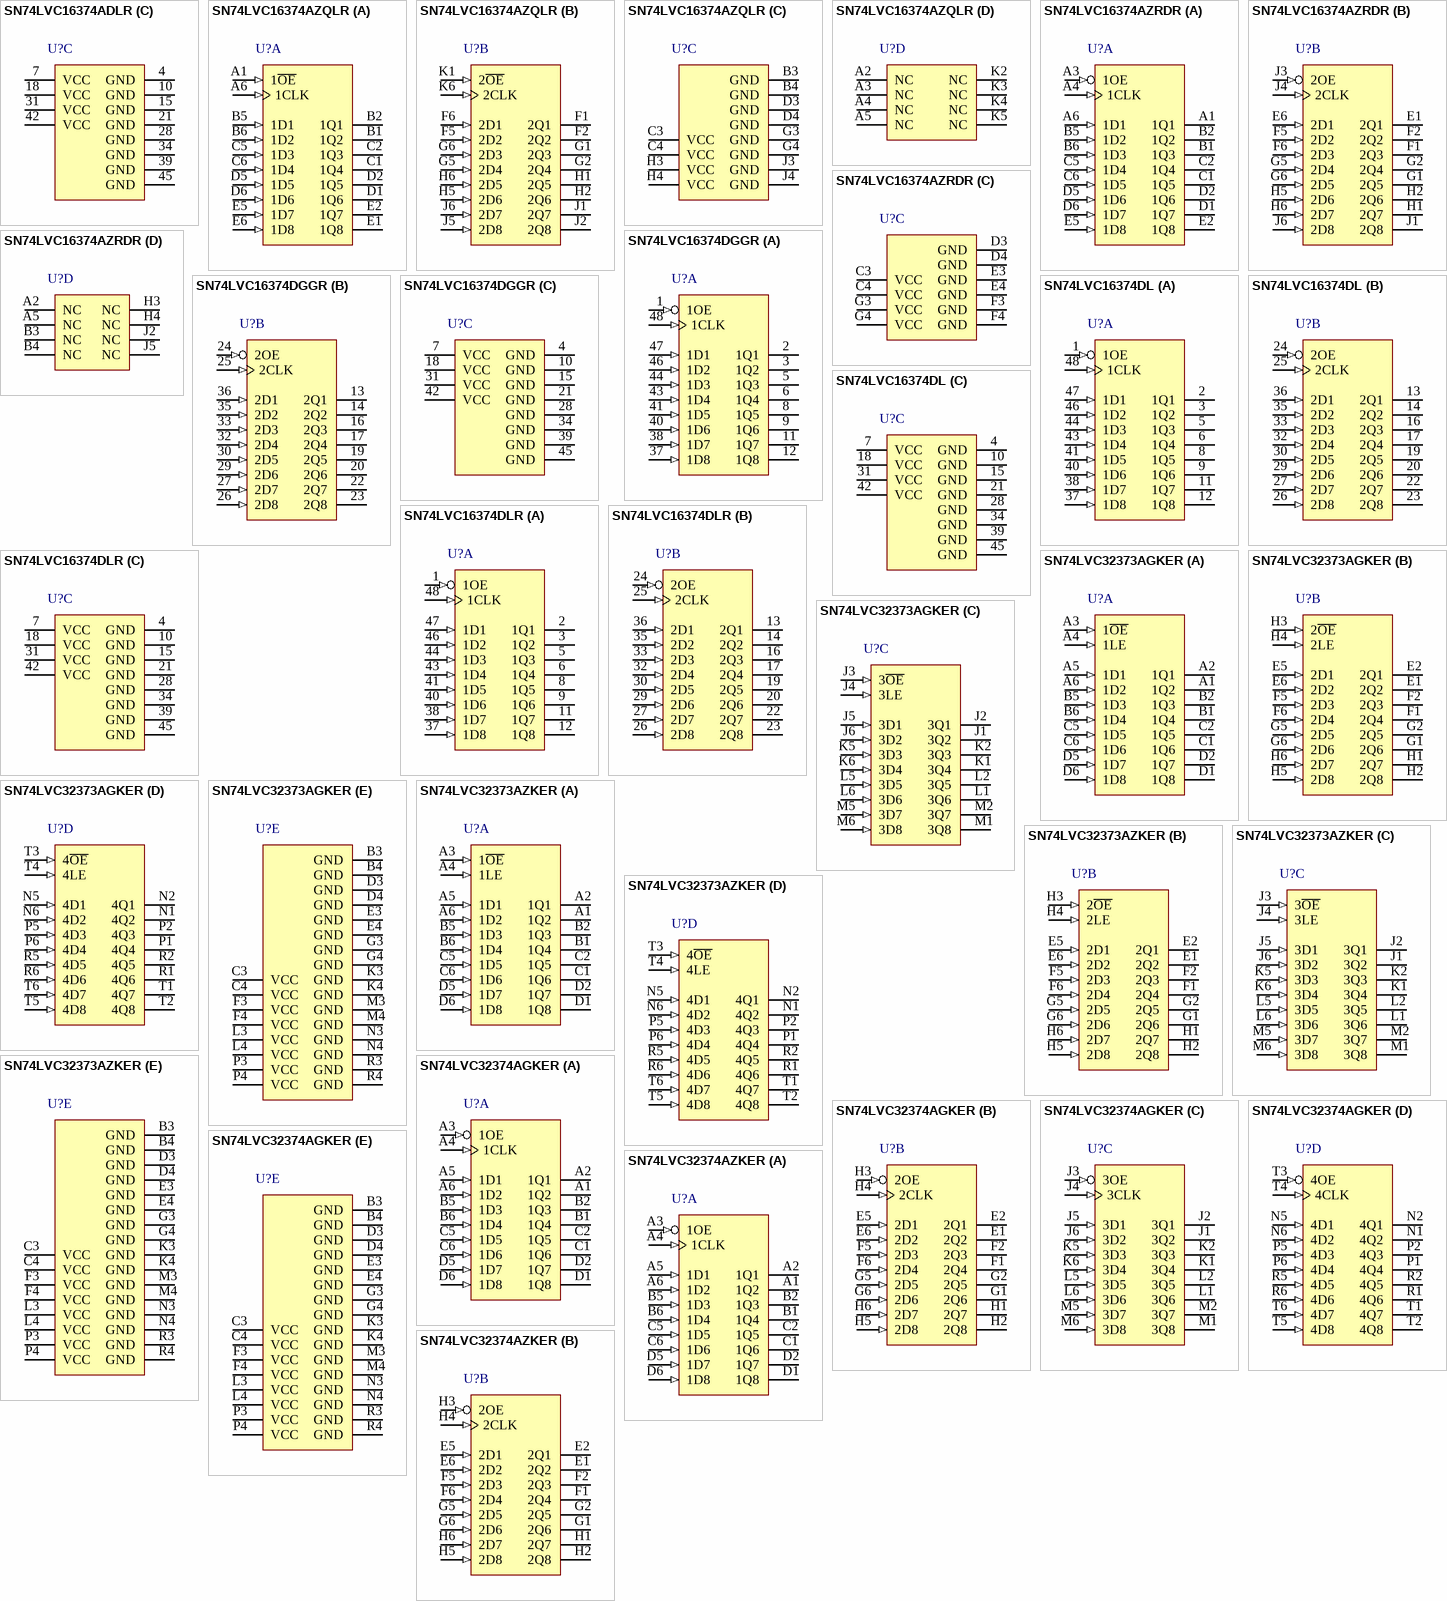
[diagram p108: symbols SN74LVC16374ADLR to SN74LVC32374AZKER]

## SN74LVC16374ADLR
designator U?
16-Bit Edge-Triggered D-Type Flip-Flop With 3-State Outputs, DL0048A, LARGE T&R; Generic Part Number: SN74LVC16374A; Manufacturer: Texas Instruments; PartNumber: SN74LVC16374ADLR; VCC(Min)(V): 1.65; VCC(Max)(V): 3.6; Output Type: CMOS; ICC @ Nom Voltage(Max)(mA): 0.02; Input Type: TTL,CMOS; Bits(#): 16; F @ Nom Voltage(Max)(Mhz): 100; Rating: Catalog; Technology Family: LVC; Voltage(Nom)(V): 1.8,2.5,2.7,3.3; Schmitt Trigger: No; Output Drive (IOL/IOH)(Max)(mA): 24/-24; Output Logic: Non-inverted; 3-State Output: Yes; tpd @ Nom Voltage(Max)(ns): 6.5,4.3,4.9,4.5; DatasheetVersion: SCAS728B; PackageReference: DL0048A; Supplier 1: Digi-Key; Supplier Part Number 1: 296-13247-2-ND; Supplier 2: Digi-Key; Supplier Part Number 2: 296-13247-1-ND; Supplier 3: Digi-Key; Supplier Part Number 3: 296-13247-6-ND; Supplier 4: Newark; Supplier Part Number 4: 76C4176; Supplier 5: Mouser; Supplier Part Number 5: 595-SN74LVC16374ADLR; Operating Temperature Range(C): -40 to 125,-40 to 85; Code_JEDEC: MO-118; ComponentLink1Description: Manufacturer URL; ComponentLink1URL: http://www.ti.com/; ComponentLink2Description: Datasheet; ComponentLink2URL: http://www.ti.com/lit/ds/symlink/sn74lvc16374a.pdf; ComponentLink3Description: Package Specification; ComponentLink3URL: http://www.ti.com/lit/ml/mpds490/mpds490.pdf
footprint DL0048A_N (SOP, 48-Leads, Body 7.6x16mm, Pitch 0.635mm, IPC Medium Density)
footprint DL0048A_M (SOP, 48-Leads, Body 7.6x16mm, Pitch 0.635mm, IPC Low Density)
footprint DL0048A_L (SOP, 48-Leads, Body 7.6x16mm, Pitch 0.635mm, IPC High Density)
part A pins: 1 1OE (in), 2 1Q1 (hiz), 3 1Q2 (hiz), 5 1Q3 (hiz), 6 1Q4 (hiz), 8 1Q5 (hiz), 9 1Q6 (hiz), 11 1Q7 (hiz), 12 1Q8 (hiz), 37 1D8 (in), 38 1D7 (in), 40 1D6 (in), 41 1D5 (in), 43 1D4 (in), 44 1D3 (in), 46 1D2 (in), 47 1D1 (in), 48 1CLK (in)
part B pins: 13 2Q1 (hiz), 14 2Q2 (hiz), 16 2Q3 (hiz), 17 2Q4 (hiz), 19 2Q5 (hiz), 20 2Q6 (hiz), 22 2Q7 (hiz), 23 2Q8 (hiz), 24 2OE (in), 25 2CLK (in), 26 2D8 (in), 27 2D7 (in), 29 2D6 (in), 30 2D5 (in), 32 2D4 (in), 33 2D3 (in), 35 2D2 (in), 36 2D1 (in)
part C pins: 4 GND (power), 7 VCC (power), 10 GND (power), 15 GND (power), 18 VCC (power), 21 GND (power), 28 GND (power), 31 VCC (power), 34 GND (power), 39 GND (power), 42 VCC (power), 45 GND (power)

## SN74LVC16374AZQLR
designator U?
16-Bit Edge-Triggered D-Type Flip-Flop With 3-State Outputs, ZQL0056A, LARGE T&R; Generic Part Number: SN74LVC16374A; Manufacturer: Texas Instruments; PartNumber: SN74LVC16374AZQLR; VCC(Min)(V): 1.65; VCC(Max)(V): 3.6; Output Type: CMOS; ICC @ Nom Voltage(Max)(mA): 0.02; Input Type: TTL,CMOS; Bits(#): 16; F @ Nom Voltage(Max)(Mhz): 100; Rating: Catalog; Technology Family: LVC; Voltage(Nom)(V): 1.8,2.5,2.7,3.3; Schmitt Trigger: No; Output Drive (IOL/IOH)(Max)(mA): 24/-24; Output Logic: Non-inverted; 3-State Output: Yes; tpd @ Nom Voltage(Max)(ns): 6.5,4.3,4.9,4.5; DatasheetVersion: SCAS728B; PackageReference: ZQL0056A; Supplier 1: Digi-Key; Supplier Part Number 1: 296-31909-2-ND; Supplier 2: Digi-Key; Supplier Part Number 2: 296-31909-1-ND; Supplier 3: Digi-Key; Supplier Part Number 3: 296-31909-6-ND; Supplier 4: Mouser; Supplier Part Number 4: 595-SN74LVC16374AZQL; Operating Temperature Range(C): -40 to 125,-40 to 85; Code_JEDEC: MO-285; ComponentLink1Description: Manufacturer URL; ComponentLink1URL: http://www.ti.com/; ComponentLink2Description: Datasheet; ComponentLink2URL: http://www.ti.com/lit/ds/symlink/sn74lvc16374a.pdf; ComponentLink3Description: Package Specification; ComponentLink3URL: http://www.ti.com/lit/ml/mpbg302g/mpbg302g.pdf
footprint ZQL0056A (BGA, 56-Balls, Body 7x4.5mm, Pitch 0.65mm)
part A pins: A1 1~{OE} (in), A6 1CLK (in), B1 1Q2 (hiz), B2 1Q1 (hiz), B5 1D1 (in), B6 1D2 (in), C1 1Q4 (hiz), C2 1Q3 (hiz), C5 1D3 (in), C6 1D4 (in), D1 1Q6 (hiz), D2 1Q5 (hiz), D5 1D5 (in), D6 1D6 (in), E1 1Q8 (hiz), E2 1Q7 (hiz), E5 1D7 (in), E6 1D8 (in)
part B pins: F1 2Q1 (hiz), F2 2Q2 (hiz), F5 2D2 (in), F6 2D1 (in), G1 2Q3 (hiz), G2 2Q4 (hiz), G5 2D4 (in), G6 2D3 (in), H1 2Q5 (hiz), H2 2Q6 (hiz), H5 2D6 (in), H6 2D5 (in), J1 2Q7 (hiz), J2 2Q8 (hiz), J5 2D8 (in), J6 2D7 (in), K1 2~{OE} (in), K6 2CLK (in)
part C pins: B3 GND (power), B4 GND (power), C3 VCC (power), C4 VCC (power), D3 GND (power), D4 GND (power), G3 GND (power), G4 GND (power), H3 VCC (power), H4 VCC (power), J3 GND (power), J4 GND (power)
part D pins: A2 NC, A3 NC, A4 NC, A5 NC, K2 NC, K3 NC, K4 NC, K5 NC

## SN74LVC16374AZRDR
designator U?
16-Bit Edge-Triggered D-Type Flip-Flop With 3-State Outputs, ZRD0054A, LARGE T&R; Generic Part Number: SN74LVC16374A; Manufacturer: Texas Instruments; PartNumber: SN74LVC16374AZRDR; VCC(Min)(V): 1.65; VCC(Max)(V): 3.6; Output Type: CMOS; ICC @ Nom Voltage(Max)(mA): 0.02; Input Type: TTL,CMOS; Bits(#): 16; F @ Nom Voltage(Max)(Mhz): 100; Rating: Catalog; Technology Family: LVC; Voltage(Nom)(V): 1.8,2.5,2.7,3.3; Schmitt Trigger: No; Output Drive (IOL/IOH)(Max)(mA): 24/-24; Output Logic: Non-inverted; 3-State Output: Yes; tpd @ Nom Voltage(Max)(ns): 6.5,4.3,4.9,4.5; DatasheetVersion: SCAS728B; PackageReference: ZRD0054A; Supplier 1: Digi-Key; Supplier Part Number 1: 296-16886-2-ND; Supplier 2: Digi-Key; Supplier Part Number 2: 296-16886-1-ND; Supplier 3: Digi-Key; Supplier Part Number 3: 296-16886-6-ND; Supplier 4: Mouser; Supplier Part Number 4: 595-SN74LVC16374AZRD; Operating Temperature Range(C): -40 to 125,-40 to 85; Code_JEDEC: MO-205; ComponentLink1Description: Manufacturer URL; ComponentLink1URL: http://www.ti.com/; ComponentLink2Description: Datasheet; ComponentLink2URL: http://www.ti.com/lit/ds/symlink/sn74lvc16374a.pdf; ComponentLink3Description: Package Specification; ComponentLink3URL: http://www.ti.com/lit/ml/mpbg320a/mpbg320a.pdf
footprint ZRD0054A (BGA, 54-Balls, Body 8x5.5mm, Pitch 0.8mm)
part A pins: A1 1Q1 (hiz) "1Q1 Output", A3 1OE (in) "Output Enable 1", A4 1CLK (in) "Clock 1 Input", A6 1D1 (in) "1D1 Input", B1 1Q3 (hiz) "1Q3 Output", B2 1Q2 (hiz) "1Q2 Output", B5 1D2 (in) "1D2 Input", B6 1D3 (in) "1D3 Input", C1 1Q5 (hiz) "1Q5 Output", C2 1Q4 (hiz) "1Q4 Output", C5 1D4 (in) "1D4 Input", C6 1D5 (in) "1D5 Input", D1 1Q7 (hiz) "1Q7 Output", D2 1Q6 (hiz) "1Q6 Output", D5 1D6 (in) "1D6 Input", D6 1D7 (in) "1D7 Input", E2 1Q8 (hiz) "1Q8 Output", E5 1D8 (in) "1D8 Input"
part B pins: E1 2Q1 (hiz) "2Q1 Output", E6 2D1 (in) "2D1 Input", F1 2Q3 (hiz) "2Q3 Output", F2 2Q2 (hiz) "2Q2 Output", F5 2D2 (in) "2D2 Input", F6 2D3 (in) "2D3 Input", G1 2Q5 (hiz) "2Q5 Output", G2 2Q4 (hiz) "2Q4 Output", G5 2D4 (in) "2D4 Input", G6 2D5 (in) "2D5 Input", H1 2Q7 (hiz) "2Q7 Output", H2 2Q6 (hiz) "2Q6 Output", H5 2D6 (in) "2D6 Input", H6 2D7 (in) "2D7 Input", J1 2Q8 (hiz) "2Q8 Output", J3 2OE (in) "Output Enable 2", J4 2CLK (in) "Clock 2 Input", J6 2D8 (in) "2D8 Input"
part C pins: C3 VCC (power) "Power Pin", C4 VCC (power) "Power Pin", D3 GND (power) "Ground Pin", D4 GND (power) "Ground Pin", E3 GND (power) "Ground Pin", E4 GND (power) "Ground Pin", F3 GND (power) "Ground Pin", F4 GND (power) "Ground Pin", G3 VCC (power) "Power Pin", G4 VCC (power) "Power Pin"
part D pins: A2 NC "No internal connection", A5 NC "No internal connection", B3 NC "No internal connection", B4 NC "No internal connection", H3 NC "No internal connection", H4 NC "No internal connection", J2 NC "No internal connection", J5 NC "No internal connection"

## SN74LVC16374DGGR
designator U?
16-Bit Edge-Triggered D-Type Flip-Flop With 3-State Outputs, DGG0048A, LARGE T&R; Generic Part Number: SN74LVC16374; Manufacturer: Texas Instruments; PartNumber: SN74LVC16374DGGR; VCC(Min)(V): 2.7; VCC(Max)(V): 3.6; Output Type: CMOS; ICC @ Nom Voltage(Max)(mA): 0.04; Input Type: TTL,CMOS; Bits(#): 16; F @ Nom Voltage(Max)(Mhz): 100; Rating: Catalog; Technology Family: LVC; Voltage(Nom)(V): 2.7,3.3; Schmitt Trigger: No; Output Drive (IOL/IOH)(Max)(mA): 24/-24; Output Logic: Non-inverted; 3-State Output: Yes; tpd @ Nom Voltage(Max)(ns): 8.5,7.5; DatasheetVersion: SCAS316B; PackageReference: DGG0048A; Supplier 1: Digi-Key; Supplier Part Number 1: 296-11833-2-ND; Supplier 2: Digi-Key; Supplier Part Number 2: 296-11833-1-ND; Supplier 3: Digi-Key; Supplier Part Number 3: 296-11833-6-ND; Supplier 4: Mouser; Supplier Part Number 4: 595-SN74LVC16374DGGR; Operating Temperature Range(C): -40 to 85; Code_JEDEC: MO-153; ComponentLink1Description: Manufacturer URL; ComponentLink1URL: http://www.ti.com/; ComponentLink2Description: Datasheet; ComponentLink2URL: http://www.ti.com/lit/ds/symlink/sn74lvc16374.pdf; ComponentLink3Description: Package Specification; ComponentLink3URL: http://www.ti.com/lit/ml/mtss003d/mtss003d.pdf
footprint DGG0048A_N (TSSOP, 48-Leads, Body 12.6x6.2mm, Pitch 0.5mm, IPC Medium Density)
footprint DGG0048A_M (TSSOP, 48-Leads, Body 12.6x6.2mm, Pitch 0.5mm, IPC Low Density)
footprint DGG0048A_L (TSSOP, 48-Leads, Body 12.6x6.2mm, Pitch 0.5mm, IPC High Density)
part A pins: 1 1OE (in), 2 1Q1 (hiz), 3 1Q2 (hiz), 5 1Q3 (hiz), 6 1Q4 (hiz), 8 1Q5 (hiz), 9 1Q6 (hiz), 11 1Q7 (hiz), 12 1Q8 (hiz), 37 1D8 (in), 38 1D7 (in), 40 1D6 (in), 41 1D5 (in), 43 1D4 (in), 44 1D3 (in), 46 1D2 (in), 47 1D1 (in), 48 1CLK (in)
part B pins: 13 2Q1 (hiz), 14 2Q2 (hiz), 16 2Q3 (hiz), 17 2Q4 (hiz), 19 2Q5 (hiz), 20 2Q6 (hiz), 22 2Q7 (hiz), 23 2Q8 (hiz), 24 2OE (in), 25 2CLK (in), 26 2D8 (in), 27 2D7 (in), 29 2D6 (in), 30 2D5 (in), 32 2D4 (in), 33 2D3 (in), 35 2D2 (in), 36 2D1 (in)
part C pins: 4 GND (power), 7 VCC (power), 10 GND (power), 15 GND (power), 18 VCC (power), 21 GND (power), 28 GND (power), 31 VCC (power), 34 GND (power), 39 GND (power), 42 VCC (power), 45 GND (power)

## SN74LVC16374DL
designator U?
16-Bit Edge-Triggered D-Type Flip-Flop With 3-State Outputs, DL0048A, TUBE; Generic Part Number: SN74LVC16374; Manufacturer: Texas Instruments; PartNumber: SN74LVC16374DL; VCC(Min)(V): 2.7; VCC(Max)(V): 3.6; Output Type: CMOS; ICC @ Nom Voltage(Max)(mA): 0.04; Input Type: TTL,CMOS; Bits(#): 16; F @ Nom Voltage(Max)(Mhz): 100; Rating: Catalog; Technology Family: LVC; Voltage(Nom)(V): 2.7,3.3; Schmitt Trigger: No; Output Drive (IOL/IOH)(Max)(mA): 24/-24; Output Logic: Non-inverted; 3-State Output: Yes; tpd @ Nom Voltage(Max)(ns): 8.5,7.5; DatasheetVersion: SCAS316B; PackageReference: DL0048A; Supplier 1: Digi-Key; Supplier Part Number 1: SN74LVC16374DL-ND; Supplier 2: Farnell; Supplier Part Number 2: 1739889; Supplier 3: Mouser; Supplier Part Number 3: 595-SN74LVC16374DL; Operating Temperature Range(C): -40 to 85; Code_JEDEC: MO-118; ComponentLink1Description: Manufacturer URL; ComponentLink1URL: http://www.ti.com/; ComponentLink2Description: Datasheet; ComponentLink2URL: http://www.ti.com/lit/ds/symlink/sn74lvc16374.pdf; ComponentLink3Description: Package Specification; ComponentLink3URL: http://www.ti.com/lit/ml/mpds490/mpds490.pdf
footprint DL0048A_N (SOP, 48-Leads, Body 7.6x16mm, Pitch 0.635mm, IPC Medium Density)
footprint DL0048A_M (SOP, 48-Leads, Body 7.6x16mm, Pitch 0.635mm, IPC Low Density)
footprint DL0048A_L (SOP, 48-Leads, Body 7.6x16mm, Pitch 0.635mm, IPC High Density)
part A pins: 1 1OE (in), 2 1Q1 (hiz), 3 1Q2 (hiz), 5 1Q3 (hiz), 6 1Q4 (hiz), 8 1Q5 (hiz), 9 1Q6 (hiz), 11 1Q7 (hiz), 12 1Q8 (hiz), 37 1D8 (in), 38 1D7 (in), 40 1D6 (in), 41 1D5 (in), 43 1D4 (in), 44 1D3 (in), 46 1D2 (in), 47 1D1 (in), 48 1CLK (in)
part B pins: 13 2Q1 (hiz), 14 2Q2 (hiz), 16 2Q3 (hiz), 17 2Q4 (hiz), 19 2Q5 (hiz), 20 2Q6 (hiz), 22 2Q7 (hiz), 23 2Q8 (hiz), 24 2OE (in), 25 2CLK (in), 26 2D8 (in), 27 2D7 (in), 29 2D6 (in), 30 2D5 (in), 32 2D4 (in), 33 2D3 (in), 35 2D2 (in), 36 2D1 (in)
part C pins: 4 GND (power), 7 VCC (power), 10 GND (power), 15 GND (power), 18 VCC (power), 21 GND (power), 28 GND (power), 31 VCC (power), 34 GND (power), 39 GND (power), 42 VCC (power), 45 GND (power)